# Altium schematic symbol library S2BPHSM4TBLFSN.Schlib: 1 symbol
Pins are listed as number, name and electrical type; pins without a type are passive.

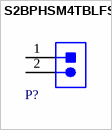
[diagram p0: symbol S2BPHSM4TBLFSN]

## S2BPHSM4TBLFSN
designator P?  (value not drawn)
CONN_2P_1R2PR_2mm; Manufacturer: JST; Insulation Resistance: 1GR; Pitch: 2mm; Max Voltage Rating (DC): 100V; Gender: Male; Number of Contacts: 2; Current Rating: 2A; Contact Resistance: 20mR; Connector Type: Header; Contact Plating: Tin,Copper; Contact Material: Tin,Copper Alloy,Bronze,Brass; Contact Finish - Mating: TIN; Housing Material: Polyamide; Fastening Type: Detent; Height: 9.4mm; Lead Pitch: 2mm; Voltage Rating (AC): 100V; Series: PH; Contact Mating Length: 0.13inch; Housing Color: Beige; Orientation: Right Angle; Reach SVHC Compliant: Yes; Width: 5mm; Insulation Color: Natural; Insulation Material: Nylon; Number of Poles: 2; Termination: Solder; Flammability Rating: UL94 V-0; Depth: 8.6mm; Mount: Surface Mount; Packaging: Tape and Reel; Contact Type: Male Pin; Max Current Rating: 2A; Voltage Rating: 100V; Color: White; Contact Shape: Square; Working Voltage: 100V; Max Operating Temperature: 85°C; Min Operating Temperature: -25°C; Number of Rows: 1; Number of Positions: 2; Lead Free: Lead Free; Length: 7.9mm; Max Voltage Rating (AC): 100V; Manufacturer Part Number: S2BPHSM4TBLFSN; Component Type: Connectors
footprint S2B-PH-SM4-TB
footprint JST- S2B-PH-SM4-TB(LF)(SN)-2_V (SMD, 2-Leads, Body 7.9x7.6mm, Pitch 2mm)
pins: 1, 2